# Altium footprint library Footprint.PcbLib: 1 footprints
Each footprint in its own frame and in the unit in brackets; x right, y up, seen from the top. Pads: shape width x height; smd on the part's side, far side on the other; paste and mask are expansions set on the pad; w line width, h text height; cw(c..) or ccw(c..) is an arc to the next point about the centre after c.
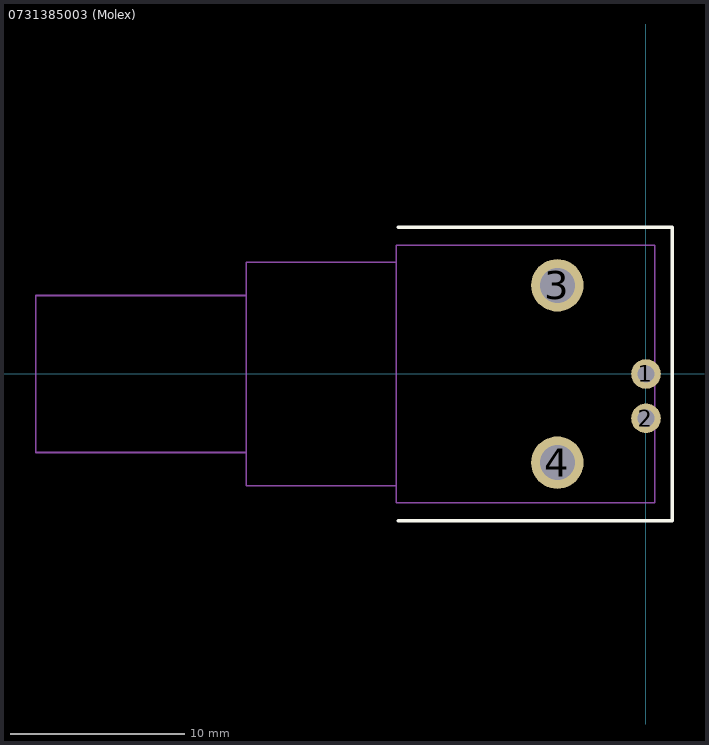
[diagram p0: the footprint, top view; thin cyan lines are the x and y axes]

## 0731385003 (Molex) [mm] "BNC Connector Jack, 4-Leads, Body 35.45x14.75 mm"
height 15.88
pads (4):
  round 1.7 hole 1: 1(0,0) 2(0,-2.54)
  round 3 hole 2: 3(-5.08,5.08) 4(-5.08,-5.08)
Top Overlay:
  lines w0.2: -14.2,-8.4 1.5,-8.4 1.5,8.4 -14.2,8.4
Top Pattern:
  lines w0.1: -22.9,-4.5 -34.95,-4.5 -34.95,4.5 -22.9,4.5 ; -14.3,-6.4 -22.9,-6.4 -22.9,6.4 -14.3,6.4 ; -14.3,-7.375 -14.3,7.375 0.5,7.375 0.5,-7.375 -14.3,-7.375
  text ".Designator" at -34.948,7.946 h1.52
3D body "0731385003 (Molex).step": height 15.88, standoff -4.15, extent -34.95,-7.375 0.5,7.375